# Altium footprint library ExtComp.PcbLib: 1 footprints
Each footprint in its own frame and in the unit in brackets; x right, y up, seen from the top. Pads: shape width x height; smd on the part's side, far side on the other; paste and mask are expansions set on the pad; w line width, h text height; cw(c..) or ccw(c..) is an arc to the next point about the centre after c.
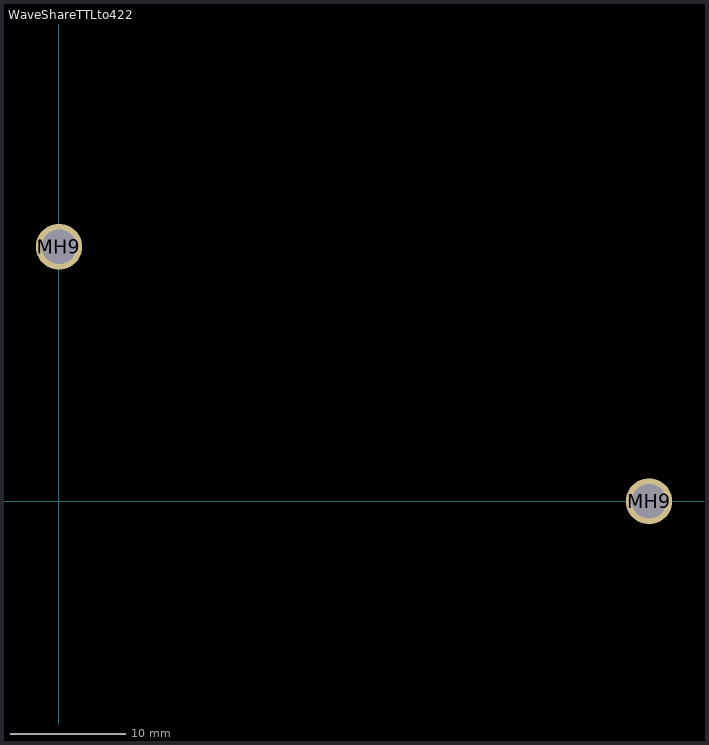
[diagram p0: the footprint, top view; thin cyan lines are the x and y axes]

## WaveShareTTLto422 [mm]
pads (2):
  round 4 hole 3 paste-2539.97 mask+0: MH9(0,22) MH9(51,0)
3D body "WS TTLto422 v5.step": height 22.5, standoff -6, extent -27.525,-4.993 78.475,27.007